# Altium footprint library MACOM.PcbLib: 3 footprints
Each footprint in its own frame and in the unit in brackets; x right, y up, seen from the top. Pads: shape width x height; smd on the part's side, far side on the other; paste and mask are expansions set on the pad; w line width, h text height; cw(c..) or ccw(c..) is an arc to the next point about the centre after c.
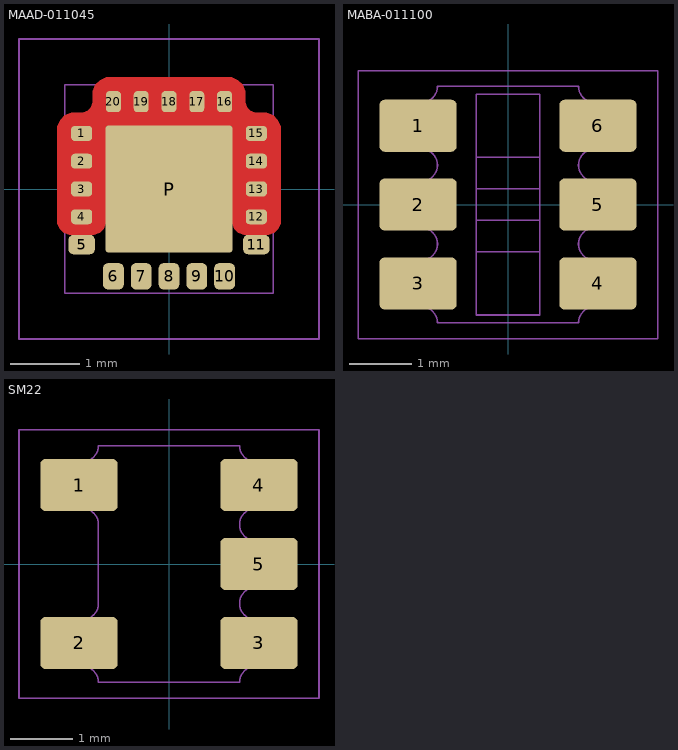
[diagram p0: the footprints below, top view; thin cyan lines are the x and y axes]

## MAAD-011045 [mil]
pads (21):
  rrect50% 12x8.48 smd paste+0 mask+1.5: 1(-49.5,31.5) 2(-49.5,15.75) 3(-49.5,0) 4(-49.5,-15.75) 12(49.5,-15.75) 13(49.5,0) 14(49.5,15.75) 15(49.5,31.5)
  rrect50% 15x11 smd paste-1.5 mask-1.5: 5(-49.5,-31.5) 11(49.5,-31.5)
  rrect50% 11.8x15 smd paste-1.5 mask-1.5: 6(-31.5,-49.5) 7(-15.75,-49.5) 8(0,-49.5) 9(15.75,-49.5) 10(31.5,-49.5)
  rrect50% 8.48x12 smd paste+0 mask+1.5: 16(31.5,49.5) 17(15.75,49.5) 18(0,49.5) 19(-15.75,49.5) 20(-31.5,49.5)
  rrect5% 72x72 smd paste-200 mask-1.5: P(0,0)
Top Layer:
  pour cut-out: 43.24,49.5 43.36,48.28 44.3,46.02 46.02,44.3 48.28,43.36 49.5,43.24 49.5,35.75 -49.5,35.75 -49.5,43.24 -48.28,43.36 -46.02,44.3 -44.3,46.02 -43.36,48.28 -43.24,49.5 -43.24,53.5 -43.24,55.44 -41.76,59.02 -39.02,61.76 -35.44,63.25 -33.5,63.25 33.5,63.25 35.44,63.25 39.02,61.76 41.76,59.02 43.24,55.44 43.24,53.5
  pour cut-out: 53.5,43.24 55.44,43.24 59.02,41.76 61.76,39.02 63.25,35.44 63.25,33.5 63.25,-17.75 63.25,-19.39 61.99,-22.42 59.67,-24.74 56.64,-26 55,-26 44,-26 42.36,-26 39.33,-24.74 37.01,-22.42 35.75,-19.39 35.75,-17.75 35.75,33.5 35.75,35.44 37.24,39.02 39.98,41.76 43.56,43.24 45.5,43.24
  pour cut-out: -45.5,43.24 -43.56,43.24 -39.98,41.76 -37.24,39.02 -35.75,35.44 -35.75,33.5 -35.75,-17.75 -35.75,-19.39 -37.01,-22.42 -39.33,-24.74 -42.36,-26 -44,-26 -55,-26 -56.64,-26 -59.67,-24.74 -61.99,-22.42 -63.25,-19.39 -63.25,-17.75 -63.25,33.5 -63.25,35.44 -61.76,39.02 -59.02,41.76 -55.44,43.24 -53.5,43.24
Top Paste:
  rectangle: -5,-5 5,5
  rectangle: -5,9 5,19
  rectangle: -5,23 5,33
  rectangle: -5,-33 5,-23
  rectangle: -5,-19 5,-9
  rectangle: -19,-5 -9,5
  rectangle: -19,9 -9,19
  rectangle: -19,23 -9,33
  rectangle: -19,-33 -9,-23
  rectangle: -19,-19 -9,-9
  rectangle: -33,-5 -23,5
  rectangle: -33,9 -23,19
  rectangle: -33,23 -23,33
  rectangle: -33,-33 -23,-23
  rectangle: -33,-19 -23,-9
  rectangle: 23,-5 33,5
  rectangle: 23,9 33,19
  rectangle: 23,23 33,33
  rectangle: 23,-33 33,-23
  rectangle: 23,-19 33,-9
  rectangle: 9,-5 19,5
  rectangle: 9,9 19,19
  rectangle: 9,23 19,33
  rectangle: 9,-33 19,-23
  rectangle: 9,-19 19,-9
Top Solder:
  region: -60,60 -64.24,76.97 -76.97,64.24
Top Courtyard:
  lines w1: -85,-85 85,-85 85,85 -85,85 -85,-85
Top Component Outline:
  lines w1: -59.06,-59.05 -59.06,59.06 59.06,59.06 59.06,-59.05 -59.06,-59.05
3D body: height 35.43, standoff 0, extent -59.06,-59.05 59.06,59.06

## MABA-011100 [mil]
pads (6):
  rrect20% 49x33 smd mask+2: 1(-57,50) 2(-57,0) 3(-57,-50) 4(57,-50) 5(57,0) 6(57,50)
Top Solder:
  region: -60,85 -70,105 -50,105
Top Courtyard:
  lines w1: -95,-85 -95,85 95,85 95,-85 -95,-85
Top Component Outline:
  lines w1: -54.92,-64.96 -66.24,-64.96 cw(c-66.24,-53.64) -77.56,-53.64 -77.56,-46.36 cw(c-66.24,-46.36) -66.24,-35.04 -54.92,-35.04 ; -54.92,-14.96 -66.24,-14.96 cw(c-66.24,-3.64) -77.56,-3.64 -77.56,3.64 cw(c-66.24,3.64) -66.24,14.96 -54.92,14.96 ; -54.92,35.04 -66.24,35.04 cw(c-66.24,46.36) -77.56,46.36 -77.56,53.64 cw(c-66.24,53.64) -66.24,64.96 -54.92,64.96 ; -20,-30 20,-30 ; -20,-10 20,-10 ; -20,10 20,10 ; -20,30 20,30 ; 54.92,-64.96 66.24,-64.96 ccw(c66.24,-53.64) 77.56,-53.64 77.56,-46.36 ccw(c66.24,-46.36) 66.24,-35.04 54.92,-35.04 ; 54.92,-14.96 66.24,-14.96 ccw(c66.24,-3.64) 77.56,-3.64 77.56,3.64 ccw(c66.24,3.64) 66.24,14.96 54.92,14.96 ; 54.92,35.04 66.24,35.04 ccw(c66.24,46.36) 77.56,46.36 77.56,53.64 ccw(c66.24,53.64) 66.24,64.96 54.92,64.96 ; -60,-64.76 -60,-35.24 -54.92,-35.24 ccw(c-54.92,-25) -44.69,-25 ccw(c-54.92,-25) -54.92,-14.76 -60,-14.76 -60,14.76 -54.92,14.76 ccw(c-54.92,25) -44.69,25 ccw(c-54.92,25) -54.92,35.24 -60,35.24 -60,64.76 -54.92,64.76 ccw(c-54.92,75) -44.69,75 44.69,75 ccw(c54.92,75) 54.92,64.76 60,64.76 60,35.24 54.92,35.24 ccw(c54.92,25) 44.69,25 ccw(c54.92,25) 54.92,14.76 60,14.76 60,-14.76 54.92,-14.76 ccw(c54.92,-25) 44.69,-25 ccw(c54.92,-25) 54.92,-35.24 60,-35.24 60,-64.76 54.92,-64.76 ccw(c54.92,-75) 44.69,-75 -44.69,-75 ccw(c-54.92,-75) -54.92,-64.76 -60,-64.76 ; -20,-70 20,-70 20,70 -20,70 -20,-70
3D body: height 25.3, standoff 1, extent -39.91,50.02 -19.99,69.98
3D body: height 25.2, standoff 0, extent -60,-75 60,75
3D body: height 25.59, standoff 0, extent -77.56,-14.96 -54.92,14.96
3D body: height 25.59, standoff 0, extent 54.92,-14.96 77.56,14.96
3D body: height 25.59, standoff 0, extent -77.56,-64.96 -54.92,-35.04
3D body: height 25.59, standoff 0, extent -77.56,35.04 -54.92,64.96
3D body: height 25.59, standoff 0, extent 54.92,-64.96 77.56,-35.04
3D body: height 25.59, standoff 0, extent 54.92,35.04 77.56,64.96
3D body: height 104.92, standoff 25.08, extent -20,-70 20,9.68
3D body: height 104.92, standoff 25.08, extent -20,-9.68 20,70
3D body: height 105, standoff 25, extent -20.08,-30.16 20,29.92
3D body: height 65, standoff 50, extent -38.01,-35.94 31.72,33.93
3D body: height 80, standoff 65, extent -36.72,-29.93 33,39.93

## SM22 [mil]
pads (5):
  rrect20% 49x33 smd mask+2: 1(-57,50) 2(-57,-50) 3(57,-50) 4(57,50) 5(57,0)
Top Designator:
  text ".Designator" at 12.5,-127.64 h35
Top Courtyard:
  lines w1: -95,-85 -95,85 95,85 95,-85 -95,-85
Top Component Outline:
  lines w1: -54.92,-64.96 -66.24,-64.96 cw(c-66.24,-53.64) -77.56,-53.64 -77.56,-46.36 cw(c-66.24,-46.36) -66.24,-35.04 -54.92,-35.04 ; -54.92,35.04 -66.24,35.04 cw(c-66.24,46.36) -77.56,46.36 -77.56,53.64 cw(c-66.24,53.64) -66.24,64.96 -54.92,64.96 ; 54.92,-64.96 66.24,-64.96 ccw(c66.24,-53.64) 77.56,-53.64 77.56,-46.36 ccw(c66.24,-46.36) 66.24,-35.04 54.92,-35.04 ; 54.92,-14.96 66.24,-14.96 ccw(c66.24,-3.64) 77.56,-3.64 77.56,3.64 ccw(c66.24,3.64) 66.24,14.96 54.92,14.96 ; 54.92,35.04 66.24,35.04 ccw(c66.24,46.36) 77.56,46.36 77.56,53.64 ccw(c66.24,53.64) 66.24,64.96 54.92,64.96 ; -60,-64.76 -60,-35.24 -54.92,-35.24 ccw(c-54.92,-25) -44.69,-25 -44.69,25 ccw(c-54.92,25) -54.92,35.24 -60,35.24 -60,64.76 -54.92,64.76 ccw(c-54.92,75) -44.69,75 44.69,75 ccw(c54.92,75) 54.92,64.76 60,64.76 60,35.24 54.92,35.24 ccw(c54.92,25) 44.69,25 ccw(c54.92,25) 54.92,14.76 60,14.76 60,-14.76 54.92,-14.76 ccw(c54.92,-25) 44.69,-25 ccw(c54.92,-25) 54.92,-35.24 60,-35.24 60,-64.76 54.92,-64.76 ccw(c54.92,-75) 44.69,-75 -44.69,-75 ccw(c-54.92,-75) -54.92,-64.76 -60,-64.76
3D body: height 25.2, standoff 0, extent -60,-75 60,75
3D body: height 25.59, standoff 0, extent 54.92,-14.96 77.56,14.96
3D body: height 25.59, standoff 0, extent -77.56,-64.96 -54.92,-35.04
3D body: height 25.59, standoff 0, extent -77.56,35.04 -54.92,64.96
3D body: height 25.59, standoff 0, extent 54.92,-64.96 77.56,-35.04
3D body: height 25.59, standoff 0, extent 54.92,35.04 77.56,64.96
3D body: height 104.92, standoff 25.08, extent -40,-70 40,9.68
3D body: height 104.92, standoff 25.08, extent -40,-9.68 40,70
3D body: height 105, standoff 25, extent -40,-30.16 40,30.32
3D body: height 65, standoff 50, extent -68.01,-65.88 61.99,63.86
3D body: height 80, standoff 65, extent -61.53,-54.88 58,64.88